# EAGLE library part LT1339 (library GD_LT1339)
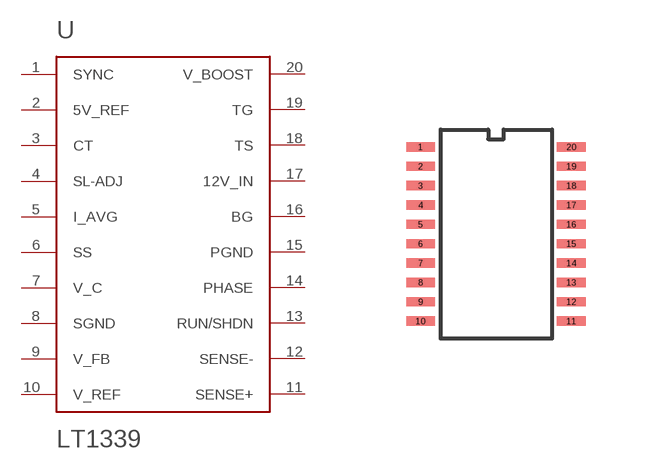
[diagram p0: symbol with the pads of SO20(SW); footprint SO20(SW)]

Designator prefix -

## LT1339  [SO20(SW)]
1  SYNC  in
2  5V_REF  out
3  CT  in
4  SL-ADJ  in
5  I_AVG  in
6  SS
7  V_C  out
8  SGND  pwr
9  V_FB  in
10  V_REF
11  SENSE+  in
12  SENSE-  in
13  RUN/SHDN  in
14  PHASE  in
15  PGND  pwr
16  BG  out
17  12V_IN  pwr
18  TS  out
19  TG  out
20  V_BOOST

## Footprint SO20(SW) (pad centres in mm)
Package generated from: SO20(SW).asc (!PADS-POWERPCB-V9.3-BASIC! DESIGN DATABASE ASCII FILE 1.0) with :import-pads-powerpcb-v5.ulp Version 1.0.1 at 04.10.2012 14:11:33
smd 0.716 x 0.232: 1 -1.887,2.177; 2 -1.887,1.694; 3 -1.887,1.21; 4 -1.887,0.726; 5 -1.887,0.242; 6 -1.887,-0.242; 7 -1.887,-0.726; 8 -1.887,-1.21; 9 -1.887,-1.694; 10 -1.887,-2.177; 11 1.887,-2.177; 12 1.887,-1.694; 13 1.887,-1.21; 14 1.887,-0.726; 15 1.887,-0.242; 16 1.887,0.242; 17 1.887,0.726; 18 1.887,1.21; 19 1.887,1.694; 20 1.887,2.177